# Altium footprint library 智能车专用库.PcbLib: 47 footprints (part 1 of 3)
Each footprint in its own frame and in the unit in brackets; x right, y up, seen from the top. Pads: shape width x height; smd on the part's side, far side on the other; paste and mask are expansions set on the pad; w line width, h text height; cw(c..) or ccw(c..) is an arc to the next point about the centre after c.
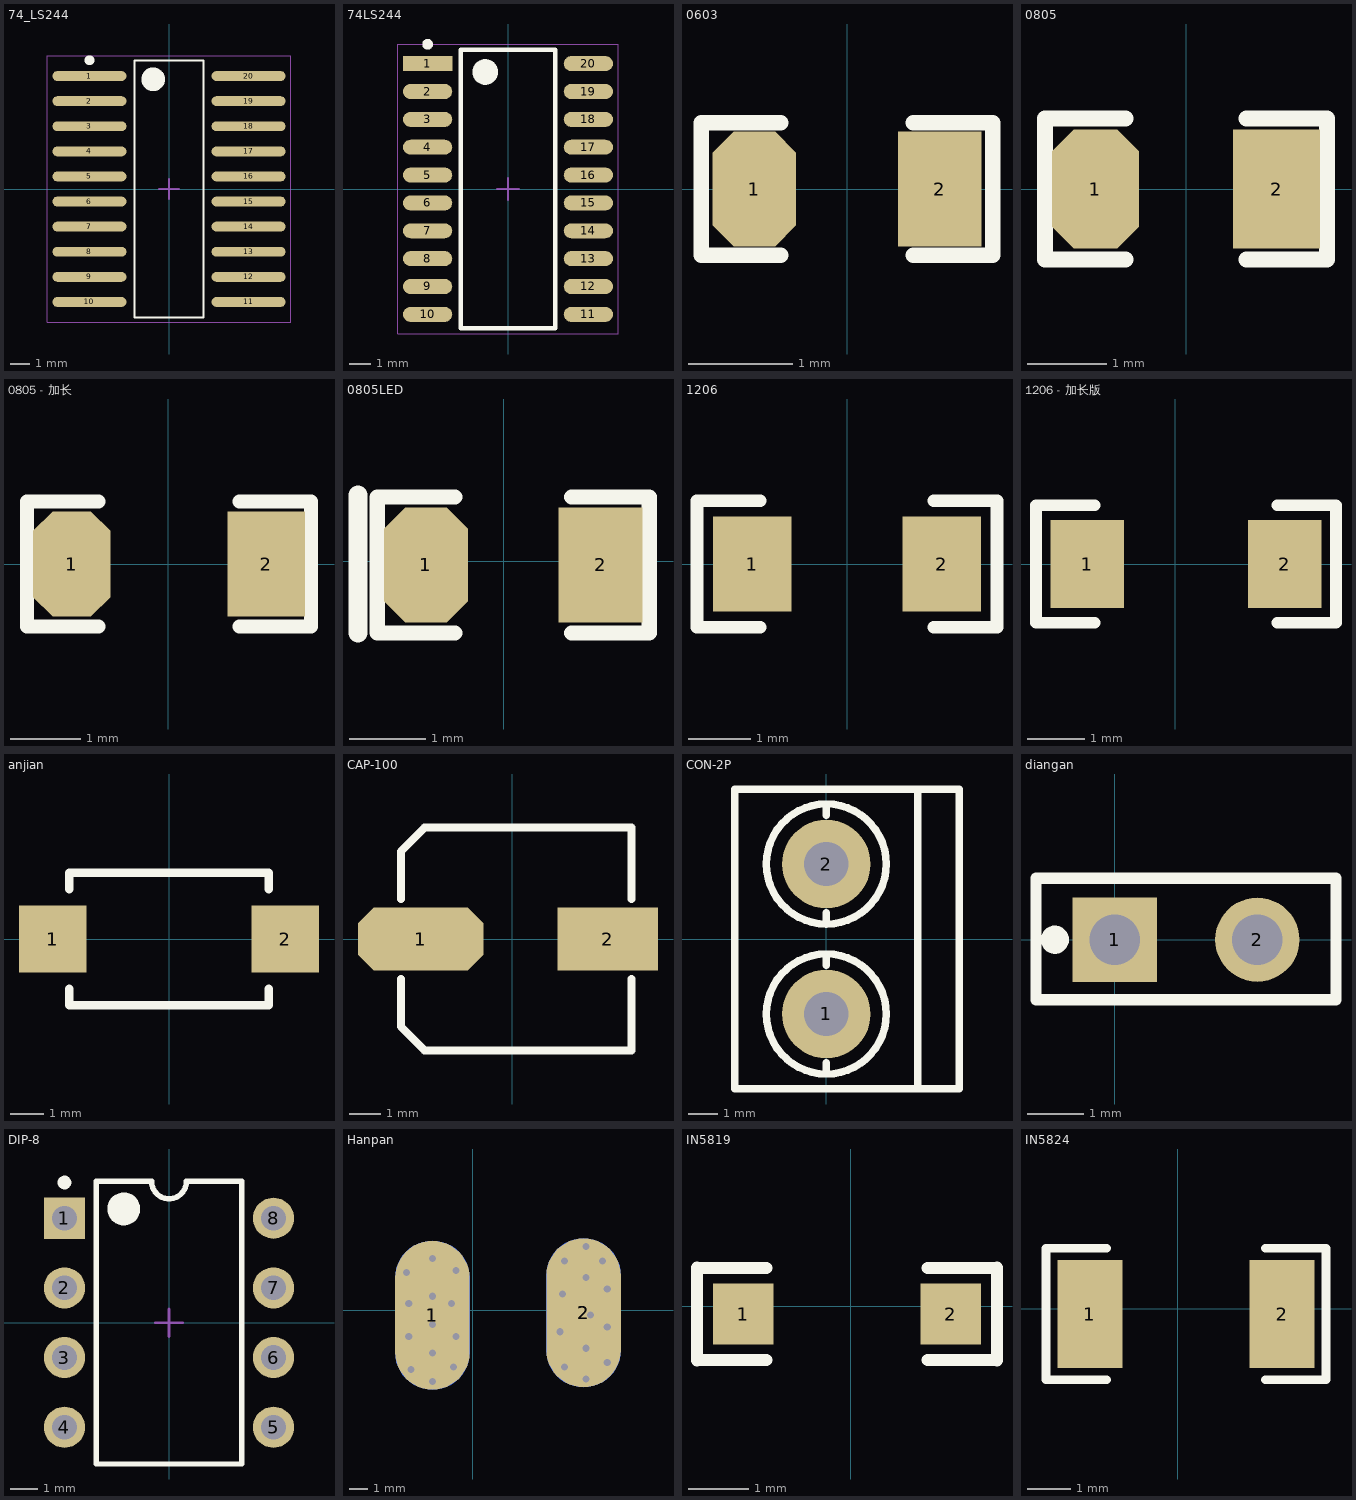
[diagram p0: the footprints below, top view; thin cyan lines are the x and y axes]

## 74_LS244 [mm]
height 2.65
pads (20):
  oval 3.75x0.5 smd: 1(-4.025,5.715) 2(-4.025,4.445) 3(-4.025,3.175) 4(-4.025,1.905) 5(-4.025,0.635) 6(-4.025,-0.635) 7(-4.025,-1.905) 8(-4.025,-3.175) 9(-4.025,-4.445) 10(-4.025,-5.715) 11(4.025,-5.715) 12(4.025,-4.445) 13(4.025,-3.175) 14(4.025,-1.905) 15(4.025,-0.635) 16(4.025,0.635) 17(4.025,1.905) 18(4.025,3.175) 19(4.025,4.445) 20(4.025,5.715)
Top Overlay:
  circle w0.25: c-4.025,6.515 r0.125
  circle w0.6: c-0.8,5.55 r0.3
  lines w0.1: -1.75,-6.5 -1.75,6.5 1.75,6.5 1.75,-6.5 -1.75,-6.5
Mechanical 15:
  lines w0.05: -6.15,-6.75 -6.15,6.75 6.15,6.75 6.15,-6.75 -6.15,-6.75
  lines w0.1: -0.5,0 0.5,0 ; 0,-0.5 0,0.5

## 74LS244 [mm]
height 2.65
pads (20):
  rect 2.3x0.7 smd: 1(-3.75,5.85)
  oval 2.3x0.7 smd: 2(-3.75,4.55) 3(-3.75,3.25) 4(-3.75,1.95) 5(-3.75,0.65) 6(-3.75,-0.65) 7(-3.75,-1.95) 8(-3.75,-3.25) 9(-3.75,-4.55) 10(-3.75,-5.85) 11(3.75,-5.85) 12(3.75,-4.55) 13(3.75,-3.25) 14(3.75,-1.95) 15(3.75,-0.65) 16(3.75,0.65) 17(3.75,1.95) 18(3.75,3.25) 19(3.75,4.55) 20(3.75,5.85)
Top Overlay:
  circle w0.6: c-1.062,5.461 r0.3
  circle w0.25: c-3.75,6.75 r0.125
  lines w0.2: -2.2,-6.5 2.2,-6.5 2.2,6.5 -2.2,6.5 -2.2,-6.5
Mechanical 15:
  lines w0.05: -5.15,-6.75 5.15,-6.75 5.15,6.75 -5.15,6.75 -5.15,-6.75
  lines w0.1: -0.5,0 0.5,0 ; 0,-0.5 0,0.5

## 0603 [mm]
pads (2):
  oct 0.8x1.1 smd: 1(-0.889,0)
  rect 0.8x1.1 smd: 2(0.889,0)
Top Overlay:
  lines w0.15: -0.635,-0.635 -1.397,-0.635 -1.397,0.635 -0.635,0.635 ; 0.635,-0.635 1.397,-0.635 1.397,0.635 0.635,0.635

## 0805 [mm]
pads (2):
  oct 1.1x1.5 smd: 1(-1.143,0)
  rect 1.1x1.5 smd: 2(1.143,0)
Top Overlay:
  lines w0.2: -1.778,-0.889 -0.762,-0.889 ; -1.778,0.889 -0.762,0.889 ; 0.762,-0.889 1.778,-0.889 ; 0.762,0.889 1.778,0.889
  lines w0.203: -1.778,-0.889 -1.778,0.889 ; 1.778,-0.889 1.778,0.889

## 0805 - 加长 [mm]
pads (2):
  oct 1.1x1.5 smd: 1(-1.372,0)
  rect 1.1x1.5 smd: 2(1.397,0)
Top Overlay:
  lines w0.2: -2.007,-0.889 -0.991,-0.889 ; -2.007,0.889 -0.991,0.889 ; 1.016,-0.889 2.032,-0.889 ; 1.016,0.889 2.032,0.889
  lines w0.203: -2.007,-0.889 -2.007,0.889 ; 2.032,-0.889 2.032,0.889

## 0805LED [mm]
pads (2):
  oct 1.1x1.5 smd: 1(-1.016,-0.051)
  rect 1.1x1.5 smd: 2(1.27,-0.051)
Top Overlay:
  lines w0.2: -1.651,-0.94 -0.635,-0.94 ; -1.651,0.838 -0.635,0.838 ; 0.889,-0.94 1.905,-0.94 ; 0.889,0.838 1.905,0.838
  lines w0.203: -1.651,-0.94 -1.651,0.838 ; 1.905,-0.94 1.905,0.838
  lines w0.254: -1.905,-0.94 -1.905,0.864

## 1206 [mil]
pads (2):
  rect 50x60 smd: 1(-60,0) 2(60,0)
Top Overlay:
  lines w7.87: -95,-40 -55,-40 ; -95,40 -55,40 ; 55,-40 95,-40 ; 55,40 95,40
  lines w8: -95,-40 -95,40 ; 95,-40 95,40

## 1206 - 加长版 [mil]
pads (2):
  rect 50x60 smd: 1(-60,0) 2(75,0)
Top Overlay:
  lines w7.87: -95,-40 -55,-40 ; -95,40 -55,40 ; 70,-40 110,-40 ; 70,40 110,40
  lines w8: -95,-40 -95,40 ; 110,-40 110,40

## anjian [mil]
pads (2):
  rect 80x80 smd: 1(-137.8,0) 2(137.8,0)
Top Overlay:
  lines w10: -118.11,-59.06 -118.11,-78.74 118.11,-78.74 118.11,-59.06 ; -118.11,59.06 -118.11,78.74 118.11,78.74 118.11,59.06

## CAP-100 [mm]
pads (2):
  oct 4x2 smd: 1(-2.921,0)
  rect 3.2x2 smd: 2(3.048,0)
Top Overlay:
  lines w0.254: -3.556,-1.27 -3.556,-2.794 -2.794,-3.556 3.81,-3.556 3.81,-2.984 3.81,-1.841 3.81,-1.27 ; -3.556,1.27 -3.556,2.794 -2.794,3.556 3.81,3.556 3.81,1.27

## CON-2P [mm]
pads (2):
  round 3 hole 1.5: 1(0,-2.54) 2(0,2.54)
Top Overlay:
  circle w0.254: c0,2.54 r2.032
  circle w0.254: c0,-2.54 r2.032
  lines w0.254: 0,-4.572 0,-4.191 ; 0,-0.889 0,-0.508 ; 0,0.508 0,0.889 ; 0,4.191 0,4.572 ; 3.1,-5.08 3.1,5.08 ; -3.1,-5.08 -3.1,5.08 4.5,5.08 4.5,-5.08 -3.1,-5.08

## diangan [mm] "Photosensitive Diode; 2 Leads"
pads (2):
  rect 1.5x1.5 hole 0.9: 1(0,0)
  round 1.5 hole 0.9: 2(2.54,0)
Top Overlay:
  circle w0.25: c-1.065,0 r0.125
  lines w0.2: -1.4,-1.067 -1.4,1.092 3.94,1.092 3.94,-1.067 -1.4,-1.067

## DIP-8 [mm] "DIP; 8 Leads; Row Spacing 7.62 mm; Pitch 2.54 mm"
height 5.08
pads (8):
  rect 1.5x1.5 hole 0.9: 1(-3.81,3.81)
  round 1.5 hole 0.9: 2(-3.81,1.27) 3(-3.81,-1.27) 4(-3.81,-3.81) 5(3.81,-3.81) 6(3.81,-1.27) 7(3.81,1.27) 8(3.81,3.81)
Top Overlay:
  circle w0.6: c-1.65,4.15 r0.3
  circle w0.25: c-3.81,5.11 r0.125
  lines w0.2: -2.65,-5.15 2.65,-5.15 2.65,5.15 0.635,5.15 cw(c0,5.15) -0.635,5.15 -2.65,5.15 -2.65,-5.15
Mechanical 15:
  lines w0.1: -0.5,0 0.5,0 ; 0,-0.5 0,0.5

## Hanpan [mm]
pads (4):
  oval 4x8 smd: 1(-2.159,-0.254) 2(5.969,-0.127)
  oval 4x8 smd far side: 1(-2.159,-0.254) 2(5.969,-0.127)
via 6.35,-0.254 diameter 0.61 hole 0.381
via 6.985,2.667 diameter 0.61 hole 0.381
via 4.953,2.667 diameter 0.61 hole 0.381
via 7.239,1.143 diameter 0.61 hole 0.381
via 4.826,0.889 diameter 0.61 hole 0.381
via 7.239,-0.889 diameter 0.61 hole 0.381
via 4.699,-1.143 diameter 0.61 hole 0.381
via 7.239,-2.794 diameter 0.61 hole 0.381
via 4.953,-3.048 diameter 0.61 hole 0.381
via 6.096,-3.683 diameter 0.61 hole 0.381
via 6.096,-2.032 diameter 0.61 hole 0.381
via 6.096,1.778 diameter 0.61 hole 0.381
via 6.096,3.429 diameter 0.61 hole 0.381
via -0.889,2.159 diameter 0.61 hole 0.381
via -3.556,2.032 diameter 0.61 hole 0.381
via -2.159,-0.762 diameter 0.61 hole 0.381
via -2.159,0.762 diameter 0.61 hole 0.381
via -2.159,2.794 diameter 0.61 hole 0.381
via -3.429,0.381 diameter 0.61 hole 0.381
via -1.143,0.381 diameter 0.61 hole 0.381
via -3.429,-1.397 diameter 0.61 hole 0.381
via -0.889,-1.397 diameter 0.61 hole 0.381
via -2.159,-2.286 diameter 0.61 hole 0.381
via -3.302,-3.175 diameter 0.61 hole 0.381
via -1.016,-3.048 diameter 0.61 hole 0.381
via -2.159,-3.81 diameter 0.61 hole 0.381

## IN5819 [mm]
pads (2):
  rect 1x1 smd: 1(-1.778,-0.127) 2(1.651,-0.127)
Top Overlay:
  lines w0.2: -2.54,-0.889 -1.397,-0.889 ; -2.54,0.635 -1.397,0.635 ; 1.27,-0.889 2.413,-0.889 ; 1.27,0.635 2.413,0.635
  lines w0.203: -2.54,-0.889 -2.54,0.635 ; 2.413,-0.889 2.413,0.635

## IN5824 [mm]
pads (2):
  rect 1.5x2.5 smd: 1(-2.032,-0.127) 2(2.413,-0.127)
Top Overlay:
  lines w0.2: -3.048,-1.651 -1.651,-1.651 ; -3.048,1.397 -1.651,1.397 ; 2.032,-1.651 3.429,-1.651 ; 2.032,1.397 3.429,1.397
  lines w0.203: -3.048,-1.651 -3.048,1.397 ; 3.429,-1.651 3.429,1.397